# Altium footprint library RELAY_OMRON.PcbLib: 1 footprints
Each footprint in its own frame and in the unit in brackets; x right, y up, seen from the top. Pads: shape width x height; smd on the part's side, far side on the other; paste and mask are expansions set on the pad; w line width, h text height; cw(c..) or ccw(c..) is an arc to the next point about the centre after c.
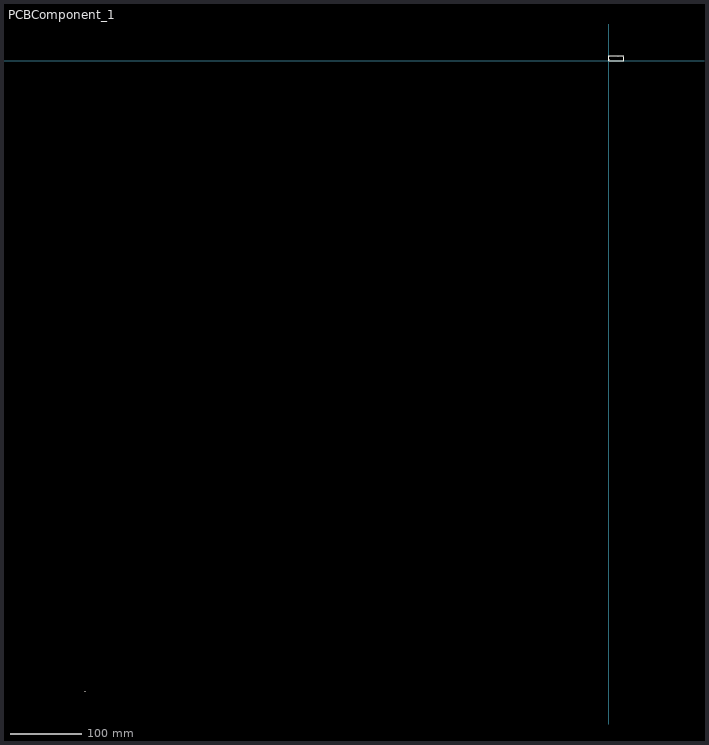
[diagram p0: the footprint, top view; thin cyan lines are the x and y axes]

## PCBComponent_1 [mm]
pads (5):
  round 1.524 hole 0.762: 0(-728.726,-877.316)
  round 1.5 hole 1.1: 1(1.143,5.969) 2(12.643,5.97) 3(19.643,5.97) 4(1.143,1.27)
Top Overlay:
  lines w0.254: 0.093,0.12 0.093,7.12 20.693,7.12 20.693,0.12 0.093,0.12